# EAGLE library part ADP2370 (library myLib)
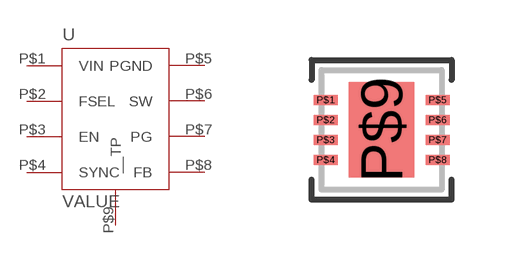
[diagram p0: symbol with the pads of 3MM_LFCSP_QFN; footprint 3MM_LFCSP_QFN]

Designator prefix -

## ADP2370  [3MM_LFCSP_QFN]
P$1  VIN
P$2  FSEL
P$3  EN
P$4  SYNC
P$5  PGND
P$6  SW
P$7  PG
P$8  FB
P$9  __TP

## Footprint 3MM_LFCSP_QFN (pad centres in mm)
smd 0.6 x 0.25: P$1 -1.4,0.75; P$2 -1.4,0.25; P$3 -1.4,-0.25; P$4 -1.4,-0.75; P$5 1.4,0.75; P$6 1.4,0.25; P$7 1.4,-0.25; P$8 1.4,-0.75
smd 1.64 x 2.38: P$9 0,0